# EAGLE library part SI9976DY-T1-E3 (library Vishay)
N-Channel Half-Bridge Driver
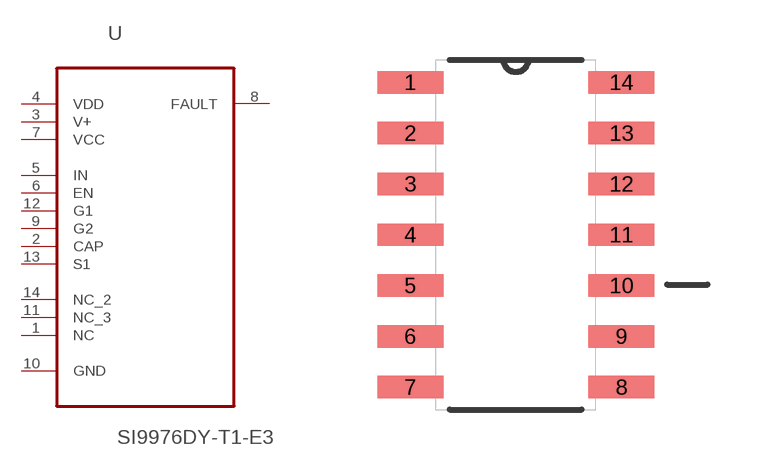
[diagram p99: symbol with the pads of SOIC127P600X175-14N; footprint SOIC127P600X175-14N]

Designator prefix U

## SI9976DY-T1-E3 (MPN: SI9976DY-T1-E3; OC_FARNELL: 1703273; OC_NEWARK: 65K1964; PACKAGE: SOIC-16; SUPPLIER: Vishay)  [SOIC127P600X175-14N]
1  NC  nc
2  CAP  pas
3  V+  pwr
4  VDD  pwr
5  IN  in
6  EN  in
7  VCC  pwr
8  FAULT  out
9  G2  in
10  GND  pas
11  NC_3  nc
12  G1  in
13  S1  in
14  NC_2  nc

## Footprint SOIC127P600X175-14N (pad centres in mm)
smd 1.651 x 0.559: 1 -2.642,3.81; 2 -2.642,2.54; 3 -2.642,1.27; 4 -2.642,0; 5 -2.642,-1.27; 6 -2.642,-2.54; 7 -2.642,-3.81; 8 2.642,-3.81; 9 2.642,-2.54; 10 2.642,-1.27; 11 2.642,0; 12 2.642,1.27; 13 2.642,2.54; 14 2.642,3.81